# Altium integrated library FPGA Generic.IntLib: 1651 symbols (part 5 of 20)
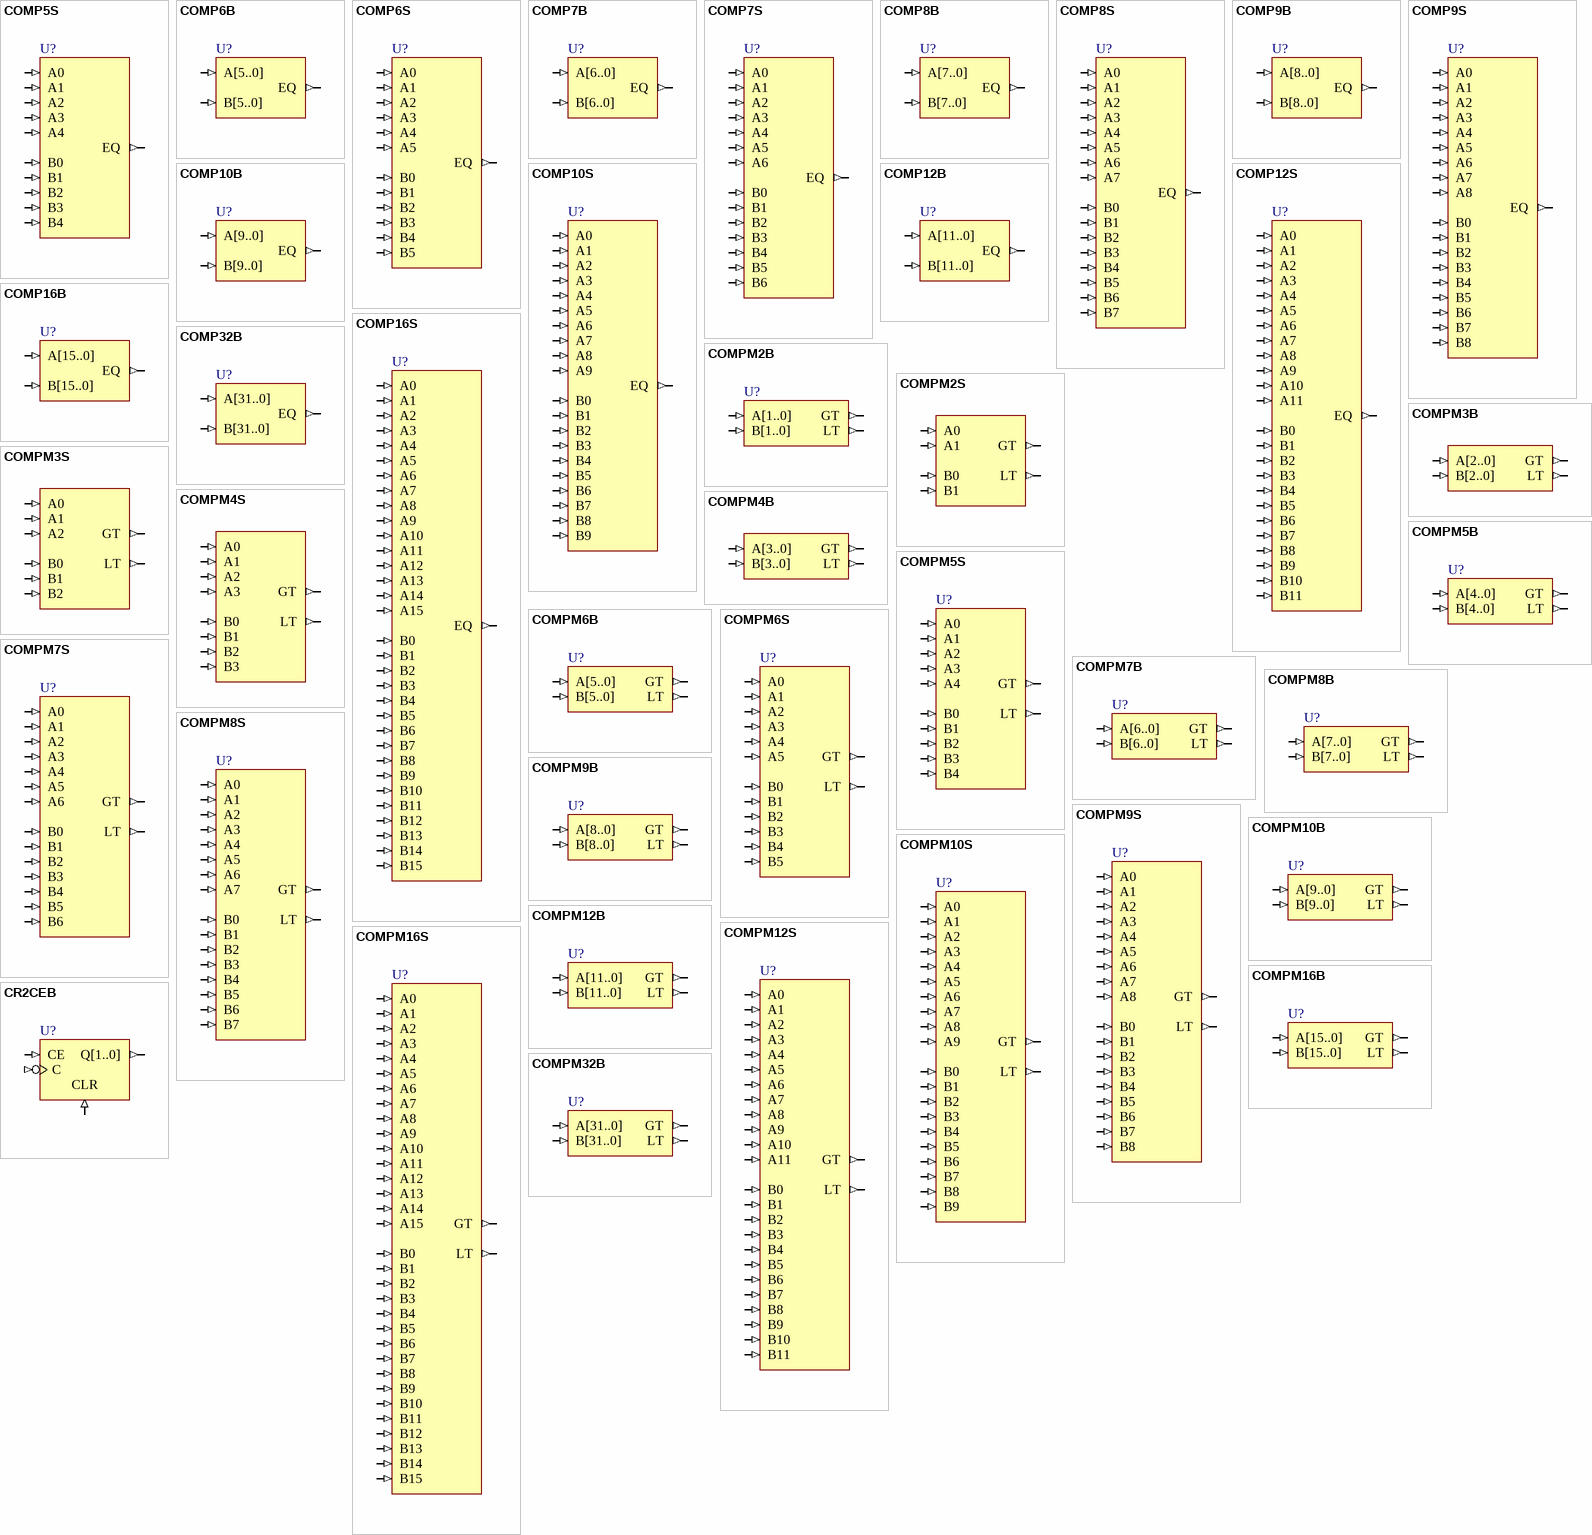
[diagram p47: symbols COMP5S to CR2CEB]

## COMPM6B
designator U?
6-Bit Magnitude Comparator, Bus Version; SubClass: COMPM; PortSize: 6; ArchiveName: GENERIC; VHDLIB_SIM: GENERIC_LIB; Published: 29-Jan-2004; Publisher: Altium Limited; LastRevisionNo: 1.00.00; HelpURL: CR0118 FPGA Generic Library Guide.pdf#page=153; ComponentLink1URL: CR0129 FPGA Comparator Resource Usage.pdf#page=33; ComponentLink1Description: Core &Resource Usage; FunctionalClass: Comparator; PortStyle: Bus Version
pins: A[5..0] (in), B[5..0] (in), GT (out), LT (out)

## COMPM6S
designator U?
6-Bit Magnitude Comparator, Single Pin Version; SubClass: COMPM; PortSize: 6; ArchiveName: GENERIC; VHDLIB_SIM: GENERIC_LIB; Published: 29-Jan-2004; Publisher: Altium Limited; LastRevisionNo: 1.00.00; HelpURL: CR0118 FPGA Generic Library Guide.pdf#page=153; ComponentLink1URL: CR0129 FPGA Comparator Resource Usage.pdf#page=34; ComponentLink1Description: Core &Resource Usage; FunctionalClass: Comparator; PortStyle: Single Pin Version
pins: A0 (in), A1 (in), A2 (in), A3 (in), A4 (in), A5 (in), B0 (in), B1 (in), B2 (in), B3 (in), B4 (in), B5 (in), GT (out), LT (out)

## COMPM7B
designator U?
7-Bit Magnitude Comparator, Bus Version; SubClass: COMPM; PortSize: 7; ArchiveName: GENERIC; VHDLIB_SIM: GENERIC_LIB; Published: 29-Jan-2004; Publisher: Altium Limited; LastRevisionNo: 1.00.00; HelpURL: CR0118 FPGA Generic Library Guide.pdf#page=153; ComponentLink1URL: CR0129 FPGA Comparator Resource Usage.pdf#page=35; ComponentLink1Description: Core &Resource Usage; FunctionalClass: Comparator; PortStyle: Bus Version
pins: A[6..0] (in), B[6..0] (in), GT (out), LT (out)

## COMPM7S
designator U?
7-Bit Magnitude Comparator, Single Pin Version; SubClass: COMPM; PortSize: 7; ArchiveName: GENERIC; VHDLIB_SIM: GENERIC_LIB; Published: 29-Jan-2004; Publisher: Altium Limited; LastRevisionNo: 1.00.00; HelpURL: CR0118 FPGA Generic Library Guide.pdf#page=153; ComponentLink1URL: CR0129 FPGA Comparator Resource Usage.pdf#page=36; ComponentLink1Description: Core &Resource Usage; FunctionalClass: Comparator; PortStyle: Single Pin Version
pins: A0 (in), A1 (in), A2 (in), A3 (in), A4 (in), A5 (in), A6 (in), B0 (in), B1 (in), B2 (in), B3 (in), B4 (in), B5 (in), B6 (in), GT (out), LT (out)

## COMPM8B
designator U?
8-Bit Magnitude Comparator, Bus Version; XilinxEquivalent: COMPM8; SubClass: COMPM; PortSize: 8; ArchiveName: GENERIC; VHDLIB_SIM: GENERIC_LIB; Published: 29-Jan-2004; Publisher: Altium Limited; LastRevisionNo: 1.00.00; HelpURL: CR0118 FPGA Generic Library Guide.pdf#page=153; ComponentLink1URL: CR0129 FPGA Comparator Resource Usage.pdf#page=37; ComponentLink1Description: Core &Resource Usage; FunctionalClass: Comparator; PortStyle: Bus Version
pins: A[7..0] (in), B[7..0] (in), GT (out), LT (out)

## COMPM8S
designator U?
8-Bit Magnitude Comparator, Single Pin Version; SubClass: COMPM; PortSize: 8; ArchiveName: GENERIC; VHDLIB_SIM: GENERIC_LIB; Published: 29-Jan-2004; Publisher: Altium Limited; LastRevisionNo: 1.00.00; HelpURL: CR0118 FPGA Generic Library Guide.pdf#page=153; ComponentLink1URL: CR0129 FPGA Comparator Resource Usage.pdf#page=38; ComponentLink1Description: Core &Resource Usage; FunctionalClass: Comparator; PortStyle: Single Pin Version
pins: A0 (in), A1 (in), A2 (in), A3 (in), A4 (in), A5 (in), A6 (in), A7 (in), B0 (in), B1 (in), B2 (in), B3 (in), B4 (in), B5 (in), B6 (in), B7 (in), GT (out), LT (out)

## COMPM9B
designator U?
9-Bit Magnitude Comparator, Bus Version; SubClass: COMPM; PortSize: 9; ArchiveName: GENERIC; VHDLIB_SIM: GENERIC_LIB; Published: 29-Jan-2004; Publisher: Altium Limited; LastRevisionNo: 1.00.00; HelpURL: CR0118 FPGA Generic Library Guide.pdf#page=153; ComponentLink1URL: CR0129 FPGA Comparator Resource Usage.pdf#page=39; ComponentLink1Description: Core &Resource Usage; FunctionalClass: Comparator; PortStyle: Bus Version
pins: A[8..0] (in), B[8..0] (in), GT (out), LT (out)

## COMPM9S
designator U?
9-Bit Magnitude Comparator, Single Pin Version; SubClass: COMPM; PortSize: 9; ArchiveName: GENERIC; VHDLIB_SIM: GENERIC_LIB; Published: 29-Jan-2004; Publisher: Altium Limited; LastRevisionNo: 1.00.00; HelpURL: CR0118 FPGA Generic Library Guide.pdf#page=153; ComponentLink1URL: CR0129 FPGA Comparator Resource Usage.pdf#page=40; ComponentLink1Description: Core &Resource Usage; FunctionalClass: Comparator; PortStyle: Single Pin Version
pins: A0 (in), A1 (in), A2 (in), A3 (in), A4 (in), A5 (in), A6 (in), A7 (in), A8 (in), B0 (in), B1 (in), B2 (in), B3 (in), B4 (in), B5 (in), B6 (in), B7 (in), B8 (in), GT (out), LT (out)

## COMPM10B
designator U?
10-Bit Magnitude Comparator, Bus Version; SubClass: COMPM; PortSize: 10; ArchiveName: GENERIC; VHDLIB_SIM: GENERIC_LIB; Published: 29-Jan-2004; Publisher: Altium Limited; LastRevisionNo: 1.00.00; HelpURL: CR0118 FPGA Generic Library Guide.pdf#page=153; ComponentLink1URL: CR0129 FPGA Comparator Resource Usage.pdf#page=41; ComponentLink1Description: Core &Resource Usage; FunctionalClass: Comparator; PortStyle: Bus Version
pins: A[9..0] (in), B[9..0] (in), GT (out), LT (out)

## COMPM10S
designator U?
10-Bit Magnitude Comparator, Single Pin Version; SubClass: COMPM; PortSize: 10; ArchiveName: GENERIC; VHDLIB_SIM: GENERIC_LIB; Published: 29-Jan-2004; Publisher: Altium Limited; LastRevisionNo: 1.00.00; HelpURL: CR0118 FPGA Generic Library Guide.pdf#page=153; ComponentLink1URL: CR0129 FPGA Comparator Resource Usage.pdf#page=42; ComponentLink1Description: Core &Resource Usage; FunctionalClass: Comparator; PortStyle: Single Pin Version
pins: A0 (in), A1 (in), A2 (in), A3 (in), A4 (in), A5 (in), A6 (in), A7 (in), A8 (in), A9 (in), B0 (in), B1 (in), B2 (in), B3 (in), B4 (in), B5 (in), B6 (in), B7 (in), B8 (in), B9 (in), GT (out), LT (out)

## COMPM12B
designator U?
12-Bit Magnitude Comparator, Bus Version; SubClass: COMPM; PortSize: 12; ArchiveName: GENERIC; VHDLIB_SIM: GENERIC_LIB; Published: 29-Jan-2004; Publisher: Altium Limited; LastRevisionNo: 1.00.00; HelpURL: CR0118 FPGA Generic Library Guide.pdf#page=153; ComponentLink1URL: CR0129 FPGA Comparator Resource Usage.pdf#page=43; ComponentLink1Description: Core &Resource Usage; FunctionalClass: Comparator; PortStyle: Bus Version
pins: A[11..0] (in), B[11..0] (in), GT (out), LT (out)

## COMPM12S
designator U?
12-Bit Magnitude Comparator, Single Pin Version; SubClass: COMPM; PortSize: 12; ArchiveName: GENERIC; VHDLIB_SIM: GENERIC_LIB; Published: 29-Jan-2004; Publisher: Altium Limited; LastRevisionNo: 1.00.00; HelpURL: CR0118 FPGA Generic Library Guide.pdf#page=153; ComponentLink1URL: CR0129 FPGA Comparator Resource Usage.pdf#page=44; ComponentLink1Description: Core &Resource Usage; FunctionalClass: Comparator; PortStyle: Single Pin Version
pins: A0 (in), A1 (in), A2 (in), A3 (in), A4 (in), A5 (in), A6 (in), A7 (in), A8 (in), A9 (in), A10 (in), A11 (in), B0 (in), B1 (in), B2 (in), B3 (in), B4 (in), B5 (in), B6 (in), B7 (in), B8 (in), B9 (in), B10 (in), B11 (in), GT (out), LT (out)

## COMPM16B
designator U?
16-Bit Magnitude Comparator, Bus Version; XilinxEquivalent: COMPM16; SubClass: COMPM; PortSize: 16; ArchiveName: GENERIC; VHDLIB_SIM: GENERIC_LIB; Published: 29-Jan-2004; Publisher: Altium Limited; LastRevisionNo: 1.00.00; HelpURL: CR0118 FPGA Generic Library Guide.pdf#page=153; ComponentLink1URL: CR0129 FPGA Comparator Resource Usage.pdf#page=45; ComponentLink1Description: Core &Resource Usage; FunctionalClass: Comparator; PortStyle: Bus Version
pins: A[15..0] (in), B[15..0] (in), GT (out), LT (out)

## COMPM16S
designator U?
16-Bit Magnitude Comparator, Single Pin Version; SubClass: COMPM; PortSize: 16; ArchiveName: GENERIC; VHDLIB_SIM: GENERIC_LIB; Published: 29-Jan-2004; Publisher: Altium Limited; LastRevisionNo: 1.00.00; HelpURL: CR0118 FPGA Generic Library Guide.pdf#page=153; ComponentLink1URL: CR0129 FPGA Comparator Resource Usage.pdf#page=46; ComponentLink1Description: Core &Resource Usage; FunctionalClass: Comparator; PortStyle: Single Pin Version
pins: A0 (in), A1 (in), A2 (in), A3 (in), A4 (in), A5 (in), A6 (in), A7 (in), A8 (in), A9 (in), A10 (in), A11 (in), A12 (in), A13 (in), A14 (in), A15 (in), B0 (in), B1 (in), B2 (in), B3 (in), B4 (in), B5 (in), B6 (in), B7 (in), B8 (in), B9 (in), B10 (in), B11 (in), B12 (in), B13 (in), B14 (in), B15 (in), GT (out), LT (out)

## COMPM32B
designator U?
32-Bit Magnitude Comparator, Bus Version; SubClass: COMPM; PortSize: 32; ArchiveName: GENERIC; VHDLIB_SIM: GENERIC_LIB; Published: 31-May-2004; Publisher: Altium Limited; LastRevisionNo: 1.00.00; HelpURL: CR0118 FPGA Generic Library Guide.pdf#page=153; ComponentLink1URL: CR0129 FPGA Comparator Resource Usage.pdf#page=47; ComponentLink1Description: Core &Resource Usage; FunctionalClass: Comparator; PortStyle: Bus Version
pins: A[31..0] (in), B[31..0] (in), GT (out), LT (out)

## CR2CEB
designator U?
2-Bit Negative-Edge Binary Ripple Counters with Clock Enable and Asynchronous Clear, Bus Version; ClockTrigger: Falling; Enable: High; PortSize: 2; ArchiveName: GENERIC; VHDLIB_SIM: GENERIC_LIB; Published: 29-Jan-2004; Publisher: Altium Limited; LastRevisionNo: 1.00.00; HelpURL: CR0118 FPGA Generic Library Guide.pdf#page=156; ComponentLink1URL: CR0130 FPGA Counter Resource Usage.pdf#page=78; ComponentLink1Description: Core &Resource Usage; FunctionalClass: Counter; SubClass: Ripple; Reset: Asynchronous; PortType: Bus Version
pins: C (in), CE (in), CLR (in), Q[1..0] (out)

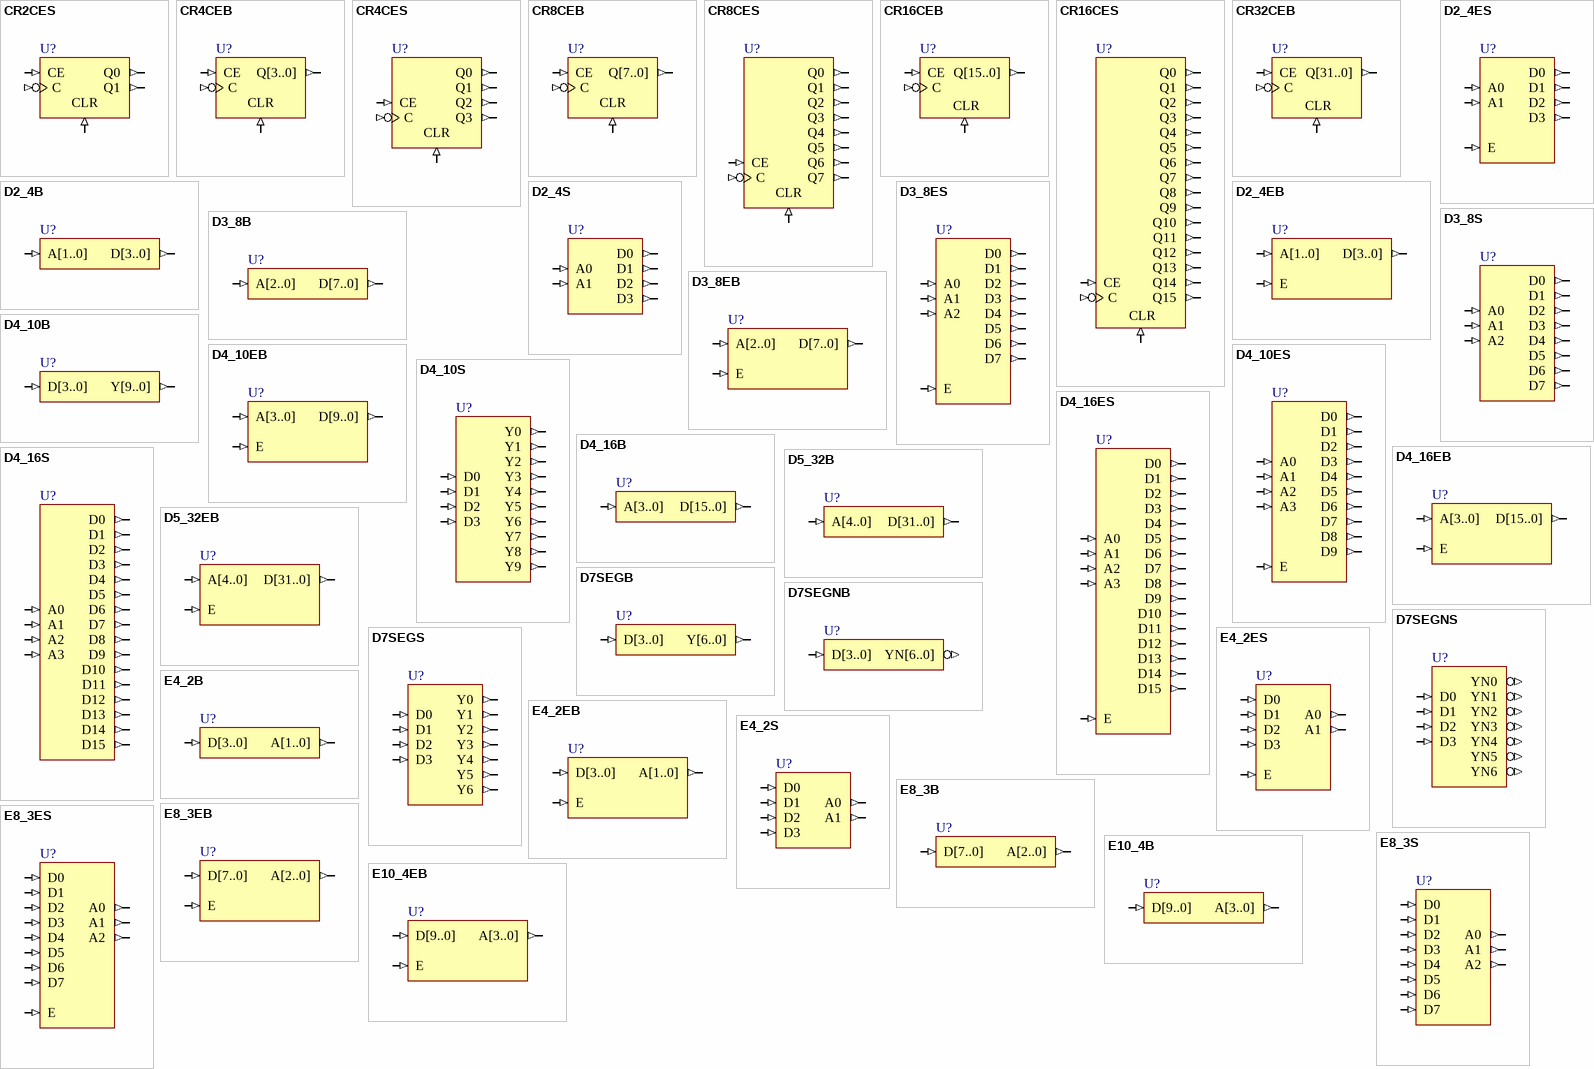
[diagram p9: symbols CR2CES to E10_4EB]

## CR2CES
designator U?
2-Bit Negative-Edge Binary Ripple Counters with Clock Enable and Asynchronous Clear, Single Pin Version; ClockTrigger: Falling; Enable: High; PortSize: 2; ArchiveName: GENERIC; VHDLIB_SIM: GENERIC_LIB; Published: 29-Jan-2004; Publisher: Altium Limited; LastRevisionNo: 1.00.00; HelpURL: CR0118 FPGA Generic Library Guide.pdf#page=156; ComponentLink1URL: CR0130 FPGA Counter Resource Usage.pdf#page=79; ComponentLink1Description: Core &Resource Usage; FunctionalClass: Counter; SubClass: Ripple; Reset: Asynchronous; PortType: Single Pin Version
pins: C (in), CE (in), CLR (in), Q0 (out), Q1 (out)

## CR4CEB
designator U?
4-Bit Negative-Edge Binary Ripple Counters with Clock Enable and Asynchronous Clear, Bus Version; ClockTrigger: Falling; Enable: High; PortSize: 4; ArchiveName: GENERIC; VHDLIB_SIM: GENERIC_LIB; Published: 29-Jan-2004; Publisher: Altium Limited; LastRevisionNo: 1.00.00; HelpURL: CR0118 FPGA Generic Library Guide.pdf#page=156; ComponentLink1URL: CR0130 FPGA Counter Resource Usage.pdf#page=80; ComponentLink1Description: Core &Resource Usage; FunctionalClass: Counter; SubClass: Ripple; Reset: Asynchronous; PortType: Bus Version
pins: C (in), CE (in), CLR (in), Q[3..0] (out)

## CR4CES
designator U?
4-Bit Negative-Edge Binary Ripple Counters with Clock Enable and Asynchronous Clear, Single Pin Version; ClockTrigger: Falling; Enable: High; PortSize: 4; ArchiveName: GENERIC; VHDLIB_SIM: GENERIC_LIB; Published: 29-Jan-2004; Publisher: Altium Limited; LastRevisionNo: 1.00.00; HelpURL: CR0118 FPGA Generic Library Guide.pdf#page=156; ComponentLink1URL: CR0130 FPGA Counter Resource Usage.pdf#page=81; ComponentLink1Description: Core &Resource Usage; FunctionalClass: Counter; SubClass: Ripple; Reset: Asynchronous; PortType: Single Pin Version
pins: C (in), CE (in), CLR (in), Q0 (out), Q1 (out), Q2 (out), Q3 (out)

## CR8CEB
designator U?
8-Bit Negative-Edge Binary Ripple Counters with Clock Enable and Asynchronous Clear, Bus Version; XilinxEquivalent: CR8CE; ClockTrigger: Falling; Enable: High; PortSize: 8; ArchiveName: GENERIC; VHDLIB_SIM: GENERIC_LIB; Published: 29-Jan-2004; Publisher: Altium Limited; LastRevisionNo: 1.00.00; HelpURL: CR0118 FPGA Generic Library Guide.pdf#page=156; ComponentLink1URL: CR0130 FPGA Counter Resource Usage.pdf#page=82; ComponentLink1Description: Core &Resource Usage; FunctionalClass: Counter; SubClass: Ripple; Reset: Asynchronous; PortType: Bus Version
pins: C (in), CE (in), CLR (in), Q[7..0] (out)

## CR8CES
designator U?
8-Bit Negative-Edge Binary Ripple Counters with Clock Enable and Asynchronous Clear, Single Pin Version; ClockTrigger: Falling; Enable: High; PortSize: 8; ArchiveName: GENERIC; VHDLIB_SIM: GENERIC_LIB; Published: 29-Jan-2004; Publisher: Altium Limited; LastRevisionNo: 1.00.00; HelpURL: CR0118 FPGA Generic Library Guide.pdf#page=156; ComponentLink1URL: CR0130 FPGA Counter Resource Usage.pdf#page=83; ComponentLink1Description: Core &Resource Usage; FunctionalClass: Counter; SubClass: Ripple; Reset: Asynchronous; PortType: Single Pin Version
pins: C (in), CE (in), CLR (in), Q0 (out), Q1 (out), Q2 (out), Q3 (out), Q4 (out), Q5 (out), Q6 (out), Q7 (out)

## CR16CEB
designator U?
16-Bit Negative-Edge Binary Ripple Counters with Clock Enable and Asynchronous Clear, Bus Version; XilinxEquivalent: CR16CE; ClockTrigger: Falling; Enable: High; PortSize: 16; ArchiveName: GENERIC; VHDLIB_SIM: GENERIC_LIB; Published: 29-Jan-2004; Publisher: Altium Limited; LastRevisionNo: 1.00.00; HelpURL: CR0118 FPGA Generic Library Guide.pdf#page=156; ComponentLink1URL: CR0130 FPGA Counter Resource Usage.pdf#page=84; ComponentLink1Description: Core &Resource Usage; FunctionalClass: Counter; SubClass: Ripple; Reset: Asynchronous; PortType: Bus Version
pins: C (in), CE (in), CLR (in), Q[15..0] (out)

## CR16CES
designator U?
16-Bit Negative-Edge Binary Ripple Counters with Clock Enable and Asynchronous Clear, Single Pin Version; ClockTrigger: Falling; Enable: High; PortSize: 16; ArchiveName: GENERIC; VHDLIB_SIM: GENERIC_LIB; Published: 29-Jan-2004; Publisher: Altium Limited; LastRevisionNo: 1.00.00; HelpURL: CR0118 FPGA Generic Library Guide.pdf#page=156; ComponentLink1URL: CR0130 FPGA Counter Resource Usage.pdf#page=85; ComponentLink1Description: Core &Resource Usage; FunctionalClass: Counter; SubClass: Ripple; Reset: Asynchronous; PortType: Single Pin Version
pins: C (in), CE (in), CLR (in), Q0 (out), Q1 (out), Q2 (out), Q3 (out), Q4 (out), Q5 (out), Q6 (out), Q7 (out), Q8 (out), Q9 (out), Q10 (out), Q11 (out), Q12 (out), Q13 (out), Q14 (out), Q15 (out)

## CR32CEB
designator U?
32-Bit Negative-Edge Binary Ripple Counters with Clock Enable and Asynchronous Clear, Bus Version; ClockTrigger: Falling; Enable: High; PortSize: 32; ArchiveName: GENERIC; VHDLIB_SIM: GENERIC_LIB; Published: 31-May-2004; Publisher: Altium Limited; LastRevisionNo: 1.00.00; HelpURL: CR0118 FPGA Generic Library Guide.pdf#page=156; ComponentLink1URL: CR0130 FPGA Counter Resource Usage.pdf#page=86; ComponentLink1Description: Core &Resource Usage; FunctionalClass: Counter; SubClass: Ripple; Reset: Asynchronous; PortType: Bus Version
pins: C (in), CE (in), CLR (in), Q[31..0] (out)

## D2_4B
designator U?
Binary 2- to 4-Bit Decoder, Bus Version; SubClass: n_m; PortSize: 4; ArchiveName: GENERIC; VHDLIB_SIM: GENERIC_LIB; Published: 29-Jan-2004; Publisher: Altium Limited; LastRevisionNo: 1.00.00; HelpURL: CR0118 FPGA Generic Library Guide.pdf#page=158; ComponentLink1URL: CR0131 FPGA Decoder Resource Usage.pdf#page=2; ComponentLink1Description: Core &Resource Usage; FunctionalClass: Decoder; PortStyle: Bus Version
pins: A[1..0] (in), D[3..0] (out)

## D2_4EB
designator U?
Binary 2- to 4-Bit Decoder with Enable, Bus Version; SubClass: n_m; Enable: High; PortSize: 4; ArchiveName: GENERIC; VHDLIB_SIM: GENERIC_LIB; Published: 29-Jan-2004; Publisher: Altium Limited; LastRevisionNo: 1.00.00; HelpURL: CR0118 FPGA Generic Library Guide.pdf#page=159; ComponentLink1URL: CR0131 FPGA Decoder Resource Usage.pdf#page=3; ComponentLink1Description: Core &Resource Usage; FunctionalClass: Decoder; PortStyle: Bus Version
pins: A[1..0] (in), D[3..0] (out), E (in)

## D2_4ES
designator U?
Binary 2- to 4-Bit Decoder with Enable, Single Pin Version; XilinxEquivalent: D2_4E; SubClass: n_m; Enable: High; PortSize: 4; ArchiveName: GENERIC; VHDLIB_SIM: GENERIC_LIB; Published: 29-Jan-2004; Publisher: Altium Limited; LastRevisionNo: 1.00.00; HelpURL: CR0118 FPGA Generic Library Guide.pdf#page=159; ComponentLink1URL: CR0131 FPGA Decoder Resource Usage.pdf#page=4; ComponentLink1Description: Core &Resource Usage; FunctionalClass: Decoder; PortStyle: Single Pin Version
pins: A0 (in), A1 (in), D0 (out), D1 (out), D2 (out), D3 (out), E (in)

## D2_4S
designator U?
Binary 2- to 4-Bit Decoder, Single Pin Version; SubClass: n_m; PortSize: 4; ArchiveName: GENERIC; VHDLIB_SIM: GENERIC_LIB; Published: 29-Jan-2004; Publisher: Altium Limited; LastRevisionNo: 1.00.00; HelpURL: CR0118 FPGA Generic Library Guide.pdf#page=158; ComponentLink1URL: CR0131 FPGA Decoder Resource Usage.pdf#page=5; ComponentLink1Description: Core &Resource Usage; FunctionalClass: Decoder; PortStyle: Single Pin Version
pins: A0 (in), A1 (in), D0 (out), D1 (out), D2 (out), D3 (out)

## D3_8B
designator U?
Binary 3- to 8-Bit Decoder, Bus Version; SubClass: n_m; PortSize: 8; ArchiveName: GENERIC; VHDLIB_SIM: GENERIC_LIB; Published: 29-Jan-2004; Publisher: Altium Limited; LastRevisionNo: 1.00.00; HelpURL: CR0118 FPGA Generic Library Guide.pdf#page=158; ComponentLink1URL: CR0131 FPGA Decoder Resource Usage.pdf#page=6; ComponentLink1Description: Core &Resource Usage; FunctionalClass: Decoder; PortStyle: Bus Version
pins: A[2..0] (in), D[7..0] (out)

## D3_8EB
designator U?
Binary 3- to 8-Bit Decoder with Enable, Bus Version; SubClass: n_m; Enable: High; PortSize: 8; ArchiveName: GENERIC; VHDLIB_SIM: GENERIC_LIB; Published: 29-Jan-2004; Publisher: Altium Limited; LastRevisionNo: 1.00.00; HelpURL: CR0118 FPGA Generic Library Guide.pdf#page=159; ComponentLink1URL: CR0131 FPGA Decoder Resource Usage.pdf#page=7; ComponentLink1Description: Core &Resource Usage; FunctionalClass: Decoder; PortStyle: Bus Version
pins: A[2..0] (in), D[7..0] (out), E (in)

## D3_8ES
designator U?
Binary 3- to 8-Bit Decoder with Enable, Single Pin Version; XilinxEquivalent: D3_8E; SubClass: n_m; Enable: High; PortSize: 8; ArchiveName: GENERIC; VHDLIB_SIM: GENERIC_LIB; Published: 29-Jan-2004; Publisher: Altium Limited; LastRevisionNo: 1.00.00; HelpURL: CR0118 FPGA Generic Library Guide.pdf#page=159; ComponentLink1URL: CR0131 FPGA Decoder Resource Usage.pdf#page=8; ComponentLink1Description: Core &Resource Usage; FunctionalClass: Decoder; PortStyle: Single Pin Version
pins: A0 (in), A1 (in), A2 (in), D0 (out), D1 (out), D2 (out), D3 (out), D4 (out), D5 (out), D6 (out), D7 (out), E (in)

## D3_8S
designator U?
Binary 3- to 8-Bit Decoder, Single Pin Version; SubClass: n_m; PortSize: 8; ArchiveName: GENERIC; VHDLIB_SIM: GENERIC_LIB; Published: 29-Jan-2004; Publisher: Altium Limited; LastRevisionNo: 1.00.00; HelpURL: CR0118 FPGA Generic Library Guide.pdf#page=158; ComponentLink1URL: CR0131 FPGA Decoder Resource Usage.pdf#page=9; ComponentLink1Description: Core &Resource Usage; FunctionalClass: Decoder; PortStyle: Single Pin Version
pins: A0 (in), A1 (in), A2 (in), D0 (out), D1 (out), D2 (out), D3 (out), D4 (out), D5 (out), D6 (out), D7 (out)

## D4_10B
designator U?
Binary-Coded-Decimal (BCD) Decoder, Bus Version; SubClass: 4_10; PortSize: 10; ArchiveName: GENERIC; VHDLIB_SIM: GENERIC_LIB; Published: 29-Jan-2004; Publisher: Altium Limited; LastRevisionNo: 1.00.00; HelpURL: CR0118 FPGA Generic Library Guide.pdf#page=160; ComponentLink1URL: CR0131 FPGA Decoder Resource Usage.pdf#page=10; ComponentLink1Description: Core &Resource Usage; FunctionalClass: Decoder; PortStyle: Bus Version
pins: D[3..0] (in), Y[9..0] (out)

## D4_10EB
designator U?
Binary-Coded-Decimal (BCD) Decoder with Enable, Bus Version; SubClass: 4_10; Enable: High; PortSize: 10; ArchiveName: GENERIC; VHDLIB_SIM: GENERIC_LIB; Published: 31-May-2004; Publisher: Altium Limited; LastRevisionNo: 1.00.00; HelpURL: CR0118 FPGA Generic Library Guide.pdf#page=161; ComponentLink1URL: CR0131 FPGA Decoder Resource Usage.pdf#page=11; ComponentLink1Description: Core &Resource Usage; FunctionalClass: Decoder; PortStyle: Bus Version
pins: A[3..0] (in), D[9..0] (out), E (in)

## D4_10ES
designator U?
Binary-Coded-Decimal (BCD) Decoder with Enable, Single Pin Version; SubClass: 4_10; Enable: High; PortSize: 10; ArchiveName: GENERIC; VHDLIB_SIM: GENERIC_LIB; Published: 31-May-2004; Publisher: Altium Limited; LastRevisionNo: 1.00.00; HelpURL: CR0118 FPGA Generic Library Guide.pdf#page=161; ComponentLink1URL: CR0131 FPGA Decoder Resource Usage.pdf#page=12; ComponentLink1Description: Core &Resource Usage; FunctionalClass: Decoder; PortStyle: Single Pin Version
pins: A0 (in), A1 (in), A2 (in), A3 (in), D0 (out), D1 (out), D2 (out), D3 (out), D4 (out), D5 (out), D6 (out), D7 (out), D8 (out), D9 (out), E (in)

## D4_10S
designator U?
Binary-Coded-Decimal (BCD) Decoder, Single Pin Version; SubClass: 4_10; PortSize: 10; ArchiveName: GENERIC; VHDLIB_SIM: GENERIC_LIB; Published: 29-Jan-2004; Publisher: Altium Limited; LastRevisionNo: 1.00.00; HelpURL: CR0118 FPGA Generic Library Guide.pdf#page=160; ComponentLink1URL: CR0131 FPGA Decoder Resource Usage.pdf#page=13; ComponentLink1Description: Core &Resource Usage; FunctionalClass: Decoder; PortStyle: Single Pin Version
pins: D0 (in), D1 (in), D2 (in), D3 (in), Y0 (out), Y1 (out), Y2 (out), Y3 (out), Y4 (out), Y5 (out), Y6 (out), Y7 (out), Y8 (out), Y9 (out)

## D4_16B
designator U?
Binary 4- to 16-Bit Decoder, Bus Version; SubClass: n_m; PortSize: 16; ArchiveName: GENERIC; VHDLIB_SIM: GENERIC_LIB; Published: 29-Jan-2004; Publisher: Altium Limited; LastRevisionNo: 1.00.00; HelpURL: CR0118 FPGA Generic Library Guide.pdf#page=158; ComponentLink1URL: CR0131 FPGA Decoder Resource Usage.pdf#page=14; ComponentLink1Description: Core &Resource Usage; FunctionalClass: Decoder; PortStyle: Bus Version
pins: A[3..0] (in), D[15..0] (out)

## D4_16EB
designator U?
Binary 4- to 16-Bit Decoder with Enable, Bus Version; SubClass: n_m; Enable: High; PortSize: 16; ArchiveName: GENERIC; VHDLIB_SIM: GENERIC_LIB; Published: 29-Jan-2004; Publisher: Altium Limited; LastRevisionNo: 1.00.00; HelpURL: CR0118 FPGA Generic Library Guide.pdf#page=159; ComponentLink1URL: CR0131 FPGA Decoder Resource Usage.pdf#page=15; ComponentLink1Description: Core &Resource Usage; FunctionalClass: Decoder; PortStyle: Bus Version
pins: A[3..0] (in), D[15..0] (out), E (in)

## D4_16ES
designator U?
Binary 4- to 16-Bit Decoder with Enable, Single Pin Version; XilinxEquivalent: D4_16E; SubClass: n_m; Enable: High; PortSize: 16; ArchiveName: GENERIC; VHDLIB_SIM: GENERIC_LIB; Published: 29-Jan-2004; Publisher: Altium Limited; LastRevisionNo: 1.00.00; HelpURL: CR0118 FPGA Generic Library Guide.pdf#page=159; ComponentLink1URL: CR0131 FPGA Decoder Resource Usage.pdf#page=16; ComponentLink1Description: Core &Resource Usage; FunctionalClass: Decoder; PortStyle: Single Pin Version
pins: A0 (in), A1 (in), A2 (in), A3 (in), D0 (out), D1 (out), D2 (out), D3 (out), D4 (out), D5 (out), D6 (out), D7 (out), D8 (out), D9 (out), D10 (out), D11 (out), D12 (out), D13 (out), D14 (out), D15 (out), E (in)

## D4_16S
designator U?
Binary 4- to 16-Bit Decoder, Single Pin Version; SubClass: n_m; PortSize: 16; ArchiveName: GENERIC; VHDLIB_SIM: GENERIC_LIB; Published: 29-Jan-2004; Publisher: Altium Limited; LastRevisionNo: 1.00.00; HelpURL: CR0118 FPGA Generic Library Guide.pdf#page=158; ComponentLink1URL: CR0131 FPGA Decoder Resource Usage.pdf#page=17; ComponentLink1Description: Core &Resource Usage; FunctionalClass: Decoder; PortStyle: Single Pin Version
pins: A0 (in), A1 (in), A2 (in), A3 (in), D0 (out), D1 (out), D2 (out), D3 (out), D4 (out), D5 (out), D6 (out), D7 (out), D8 (out), D9 (out), D10 (out), D11 (out), D12 (out), D13 (out), D14 (out), D15 (out)

## D5_32B
designator U?
Binary 5- to 32-Bit Decoder, Bus Version; SubClass: n_m; PortSize: 32; ArchiveName: GENERIC; VHDLIB_SIM: GENERIC_LIB; Published: 31-May-2004; Publisher: Altium Limited; LastRevisionNo: 1.00.00; HelpURL: CR0118 FPGA Generic Library Guide.pdf#page=158; ComponentLink1URL: CR0131 FPGA Decoder Resource Usage.pdf#page=18; ComponentLink1Description: Core &Resource Usage; FunctionalClass: Decoder; PortStyle: Bus Version
pins: A[4..0] (in), D[31..0] (out)

## D5_32EB
designator U?
Binary 5- to 32-Bit Decoder with Enable, Bus Version; SubClass: n_m; Enable: High; PortSize: 32; ArchiveName: GENERIC; VHDLIB_SIM: GENERIC_LIB; Published: 31-May-2004; Publisher: Altium Limited; LastRevisionNo: 1.00.00; HelpURL: CR0118 FPGA Generic Library Guide.pdf#page=159; ComponentLink1URL: CR0131 FPGA Decoder Resource Usage.pdf#page=19; ComponentLink1Description: Core &Resource Usage; FunctionalClass: Decoder; PortStyle: Bus Version
pins: A[4..0] (in), D[31..0] (out), E (in)

## D7SEGB
designator U?
7-Segment-Display Decoder for Common-Cathode LED (Active High Output), Bus Version; SubClass: 7SEG; PortSize: 7; ArchiveName: GENERIC; VHDLIB_SIM: GENERIC_LIB; Published: 29-Jan-2004; Publisher: Altium Limited; LastRevisionNo: 1.00.00; HelpURL: CR0118 FPGA Generic Library Guide.pdf#page=162; ComponentLink1URL: CR0131 FPGA Decoder Resource Usage.pdf#page=20; ComponentLink1Description: Core &Resource Usage; FunctionalClass: Decoder; PortStyle: Bus Version
pins: D[3..0] (in), Y[6..0] (out)

## D7SEGNB
designator U?
7-Segment-Display Decoder for Common-Anode LED (Active Low Output), Bus Version; SubClass: 7SEGN; PortSize: 7; ArchiveName: GENERIC; VHDLIB_SIM: GENERIC_LIB; Published: 29-Jan-2004; Publisher: Altium Limited; LastRevisionNo: 1.00.00; HelpURL: CR0118 FPGA Generic Library Guide.pdf#page=163; ComponentLink1URL: CR0131 FPGA Decoder Resource Usage.pdf#page=21; ComponentLink1Description: Core &Resource Usage; FunctionalClass: Decoder; PortStyle: Bus Version
pins: D[3..0] (in), YN[6..0] (out)

## D7SEGNS
designator U?
7-Segment-Display Decoder for Common-Anode LED (Active Low Output), Single Pin Version; SubClass: 7SEGN; PortSize: 7; ArchiveName: GENERIC; VHDLIB_SIM: GENERIC_LIB; Published: 29-Jan-2004; Publisher: Altium Limited; LastRevisionNo: 1.00.00; HelpURL: CR0118 FPGA Generic Library Guide.pdf#page=163; ComponentLink1URL: CR0131 FPGA Decoder Resource Usage.pdf#page=22; ComponentLink1Description: Core &Resource Usage; FunctionalClass: Decoder; PortStyle: Single Pin Version
pins: D0 (in), D1 (in), D2 (in), D3 (in), YN0 (out), YN1 (out), YN2 (out), YN3 (out), YN4 (out), YN5 (out), YN6 (out)

## D7SEGS
designator U?
7-Segment-Display Decoder for Common-Cathode LED (Active High Output), Single Pin Version; SubClass: 7SEG; PortSize: 7; ArchiveName: GENERIC; VHDLIB_SIM: GENERIC_LIB; Published: 29-Jan-2004; Publisher: Altium Limited; LastRevisionNo: 1.00.00; HelpURL: CR0118 FPGA Generic Library Guide.pdf#page=162; ComponentLink1URL: CR0131 FPGA Decoder Resource Usage.pdf#page=23; ComponentLink1Description: Core &Resource Usage; FunctionalClass: Decoder; PortStyle: Single Pin Version
pins: D0 (in), D1 (in), D2 (in), D3 (in), Y0 (out), Y1 (out), Y2 (out), Y3 (out), Y4 (out), Y5 (out), Y6 (out)

## E4_2B
designator U?
4- to 2-Bit Priority Encoder, Bus Version; SubClass: n_m; PortSize: 2; ArchiveName: GENERIC; VHDLIB_SIM: GENERIC_LIB; Published: 29-Jan-2004; Publisher: Altium Limited; LastRevisionNo: 1.00.00; HelpURL: CR0118 FPGA Generic Library Guide.pdf#page=164; ComponentLink1URL: CR0132 FPGA Encoder Resource Usage.pdf#page=2; ComponentLink1Description: Core &Resource Usage; FunctionalClass: Encoder; PortStyle: Bus Version
pins: A[1..0] (out), D[3..0] (in)

## E4_2EB
designator U?
4- to 2-Bit Priority Encoder with Enable, Bus Version; SubClass: n_m; Enable: High; PortSize: 2; ArchiveName: GENERIC; VHDLIB_SIM: GENERIC_LIB; Published: 29-Jan-2004; Publisher: Altium Limited; LastRevisionNo: 1.00.00; HelpURL: CR0118 FPGA Generic Library Guide.pdf#page=166; ComponentLink1URL: CR0132 FPGA Encoder Resource Usage.pdf#page=3; ComponentLink1Description: Core &Resource Usage; FunctionalClass: Encoder; PortStyle: Bus Version
pins: A[1..0] (out), D[3..0] (in), E (in)

## E4_2ES
designator U?
4- to 2-Bit Priority Encoder with Enable, Single Pin Version; SubClass: n_m; Enable: High; PortSize: 2; ArchiveName: GENERIC; VHDLIB_SIM: GENERIC_LIB; Published: 29-Jan-2004; Publisher: Altium Limited; LastRevisionNo: 1.00.00; HelpURL: CR0118 FPGA Generic Library Guide.pdf#page=166; ComponentLink1URL: CR0132 FPGA Encoder Resource Usage.pdf#page=4; ComponentLink1Description: Core &Resource Usage; FunctionalClass: Encoder; PortStyle: Single Pin Version
pins: A0 (out), A1 (out), D0 (in), D1 (in), D2 (in), D3 (in), E (in)

## E4_2S
designator U?
4- to 2-Bit Priority Encoder, Single Pin Version; SubClass: n_m; PortSize: 2; ArchiveName: GENERIC; VHDLIB_SIM: GENERIC_LIB; Published: 29-Jan-2004; Publisher: Altium Limited; LastRevisionNo: 1.00.00; HelpURL: CR0118 FPGA Generic Library Guide.pdf#page=164; ComponentLink1URL: CR0132 FPGA Encoder Resource Usage.pdf#page=5; ComponentLink1Description: Core &Resource Usage; FunctionalClass: Encoder; PortStyle: Single Pin Version
pins: A0 (out), A1 (out), D0 (in), D1 (in), D2 (in), D3 (in)

## E8_3B
designator U?
8- to 3-Bit Priority Encoder, Bus Version; SubClass: n_m; PortSize: 3; ArchiveName: GENERIC; VHDLIB_SIM: GENERIC_LIB; Published: 29-Jan-2004; Publisher: Altium Limited; LastRevisionNo: 1.00.00; HelpURL: CR0118 FPGA Generic Library Guide.pdf#page=164; ComponentLink1URL: CR0132 FPGA Encoder Resource Usage.pdf#page=6; ComponentLink1Description: Core &Resource Usage; FunctionalClass: Encoder; PortStyle: Bus Version
pins: A[2..0] (out), D[7..0] (in)

## E8_3EB
designator U?
8- to 3-Bit Priority Encoder with Enable, Bus Version; SubClass: n_m; Enable: High; PortSize: 3; ArchiveName: GENERIC; VHDLIB_SIM: GENERIC_LIB; Published: 29-Jan-2004; Publisher: Altium Limited; LastRevisionNo: 1.00.00; HelpURL: CR0118 FPGA Generic Library Guide.pdf#page=166; ComponentLink1URL: CR0132 FPGA Encoder Resource Usage.pdf#page=7; ComponentLink1Description: Core &Resource Usage; FunctionalClass: Encoder; PortStyle: Bus Version
pins: A[2..0] (out), D[7..0] (in), E (in)

## E8_3ES
designator U?
8- to 3-Bit Priority Encoder with Enable, Single Pin Version; SubClass: n_m; Enable: High; PortSize: 3; ArchiveName: GENERIC; VHDLIB_SIM: GENERIC_LIB; Published: 29-Jan-2004; Publisher: Altium Limited; LastRevisionNo: 1.00.00; HelpURL: CR0118 FPGA Generic Library Guide.pdf#page=166; ComponentLink1URL: CR0132 FPGA Encoder Resource Usage.pdf#page=8; ComponentLink1Description: Core &Resource Usage; FunctionalClass: Encoder; PortStyle: Single Pin Version
pins: A0 (out), A1 (out), A2 (out), D0 (in), D1 (in), D2 (in), D3 (in), D4 (in), D5 (in), D6 (in), D7 (in), E (in)

## E8_3S
designator U?
8- to 3-Bit Priority Encoder, Single Pin Version; SubClass: n_m; PortSize: 3; ArchiveName: GENERIC; VHDLIB_SIM: GENERIC_LIB; Published: 29-Jan-2004; Publisher: Altium Limited; LastRevisionNo: 1.00.00; HelpURL: CR0118 FPGA Generic Library Guide.pdf#page=164; ComponentLink1URL: CR0132 FPGA Encoder Resource Usage.pdf#page=9; ComponentLink1Description: Core &Resource Usage; FunctionalClass: Encoder; PortStyle: Single Pin Version
pins: A0 (out), A1 (out), A2 (out), D0 (in), D1 (in), D2 (in), D3 (in), D4 (in), D5 (in), D6 (in), D7 (in)

## E10_4B
designator U?
Binary-Coded-Decimal (BCD) Encoder, Bus Version; SubClass: 10_4; PortSize: 4; ArchiveName: GENERIC; VHDLIB_SIM: GENERIC_LIB; Published: 31-May-2004; Publisher: Altium Limited; LastRevisionNo: 1.00.00; HelpURL: CR0118 FPGA Generic Library Guide.pdf#page=168; ComponentLink1URL: CR0132 FPGA Encoder Resource Usage.pdf#page=10; ComponentLink1Description: Core &Resource Usage; FunctionalClass: Encoder; PortStyle: Bus Version
pins: A[3..0] (out), D[9..0] (in)

## E10_4EB
designator U?
Binary-Coded-Decimal (BCD) Encoder with Enable, Bus Version; SubClass: 10_4; Enable: High; PortSize: 4; ArchiveName: GENERIC; VHDLIB_SIM: GENERIC_LIB; Published: 31-May-2004; Publisher: Altium Limited; LastRevisionNo: 1.00.00; HelpURL: CR0118 FPGA Generic Library Guide.pdf#page=169; ComponentLink1URL: CR0132 FPGA Encoder Resource Usage.pdf#page=11; ComponentLink1Description: Core &Resource Usage; FunctionalClass: Encoder; PortStyle: Bus Version
pins: A[3..0] (out), D[9..0] (in), E (in)

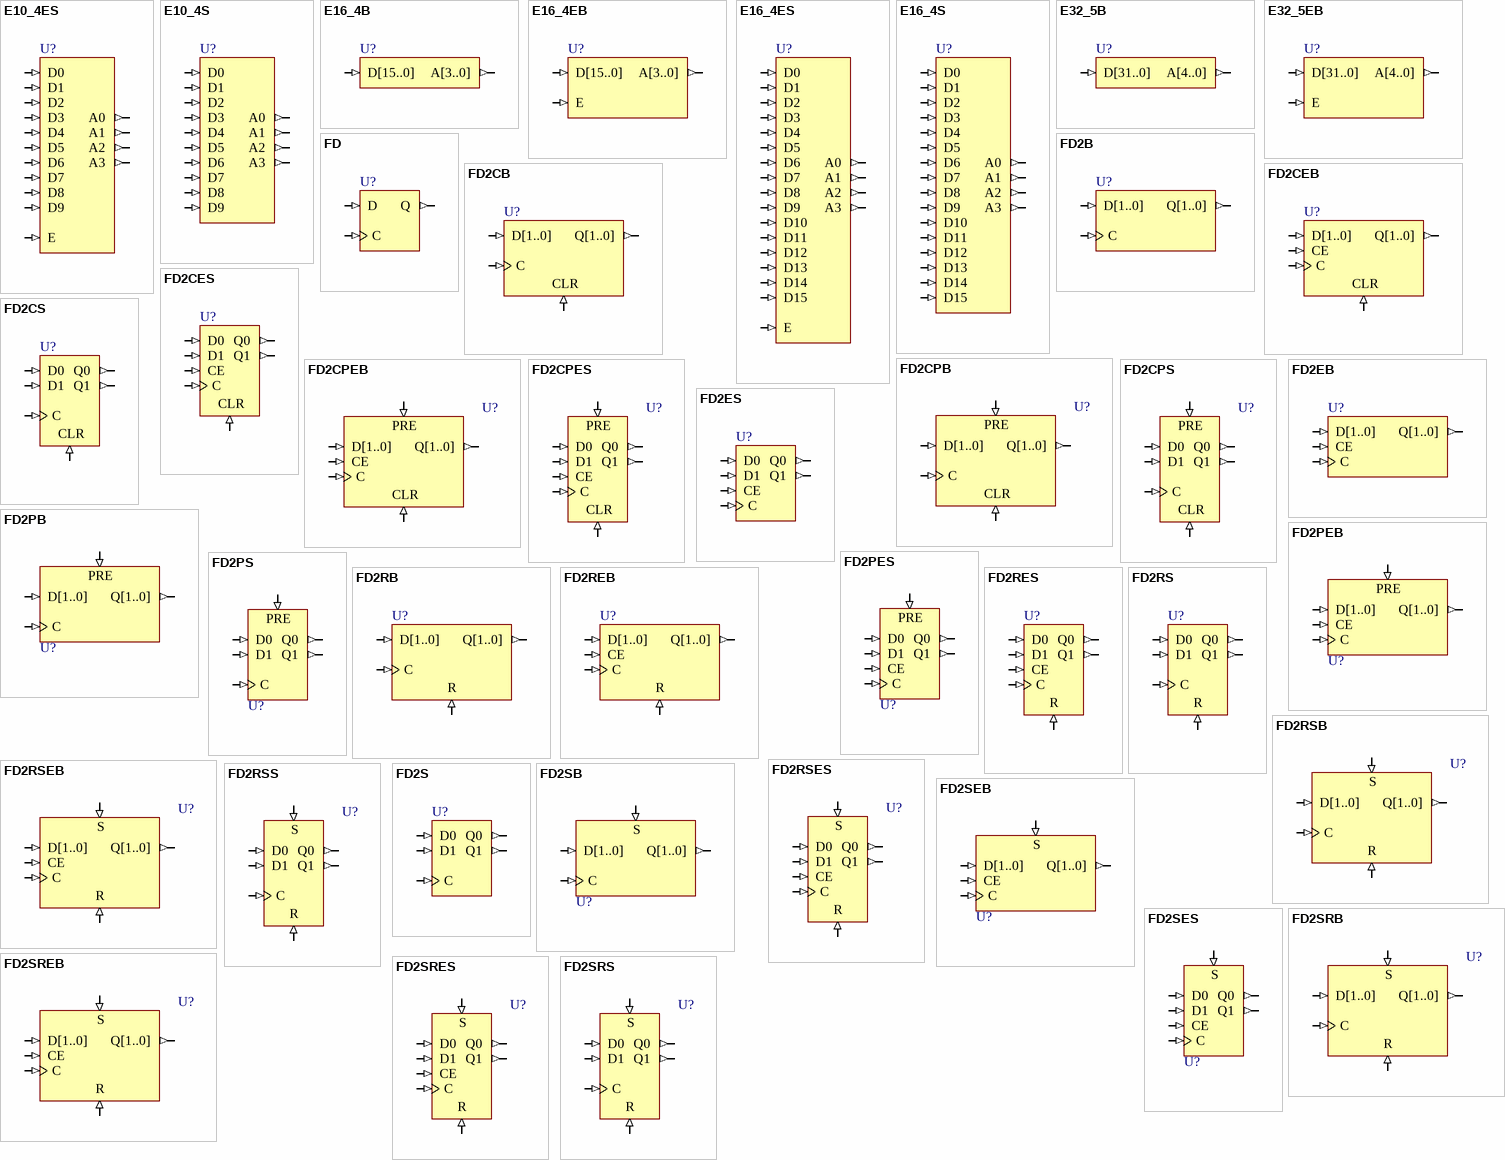
[diagram p10: symbols E10_4ES to FD2SRS]

## E10_4ES
designator U?
Binary-Coded-Decimal (BCD) Encoder with Enable, Single Pin Version; SubClass: 10_4; Enable: High; PortSize: 4; ArchiveName: GENERIC; VHDLIB_SIM: GENERIC_LIB; Published: 31-May-2004; Publisher: Altium Limited; LastRevisionNo: 1.00.00; HelpURL: CR0118 FPGA Generic Library Guide.pdf#page=169; ComponentLink1URL: CR0132 FPGA Encoder Resource Usage.pdf#page=12; ComponentLink1Description: Core &Resource Usage; FunctionalClass: Encoder; PortStyle: Single Pin Version
pins: A0 (out), A1 (out), A2 (out), A3 (out), D0 (in), D1 (in), D2 (in), D3 (in), D4 (in), D5 (in), D6 (in), D7 (in), D8 (in), D9 (in), E (in)

## E10_4S
designator U?
Binary-Coded-Decimal (BCD) Encoder, Single Pin Version; SubClass: 10_4; PortSize: 4; ArchiveName: GENERIC; VHDLIB_SIM: GENERIC_LIB; Published: 31-May-2004; Publisher: Altium Limited; LastRevisionNo: 1.00.00; HelpURL: CR0118 FPGA Generic Library Guide.pdf#page=168; ComponentLink1URL: CR0132 FPGA Encoder Resource Usage.pdf#page=13; ComponentLink1Description: Core &Resource Usage; FunctionalClass: Encoder; PortStyle: Single Pin Version
pins: A0 (out), A1 (out), A2 (out), A3 (out), D0 (in), D1 (in), D2 (in), D3 (in), D4 (in), D5 (in), D6 (in), D7 (in), D8 (in), D9 (in)

## E16_4B
designator U?
16- to 4-Bit Priority Encoder, Bus Version; SubClass: n_m; PortSize: 4; ArchiveName: GENERIC; VHDLIB_SIM: GENERIC_LIB; Published: 29-Jan-2004; Publisher: Altium Limited; LastRevisionNo: 1.00.00; HelpURL: CR0118 FPGA Generic Library Guide.pdf#page=164; ComponentLink1URL: CR0132 FPGA Encoder Resource Usage.pdf#page=14; ComponentLink1Description: Core &Resource Usage; FunctionalClass: Encoder; PortStyle: Bus Version
pins: A[3..0] (out), D[15..0] (in)

## E16_4EB
designator U?
16- to 4-Bit Priority Encoder with Enable, Bus Version; SubClass: n_m; Enable: High; PortSize: 4; ArchiveName: GENERIC; VHDLIB_SIM: GENERIC_LIB; Published: 29-Jan-2004; Publisher: Altium Limited; LastRevisionNo: 1.00.00; HelpURL: CR0118 FPGA Generic Library Guide.pdf#page=166; ComponentLink1URL: CR0132 FPGA Encoder Resource Usage.pdf#page=15; ComponentLink1Description: Core &Resource Usage; FunctionalClass: Encoder; PortStyle: Bus Version
pins: A[3..0] (out), D[15..0] (in), E (in)

## E16_4ES
designator U?
16- to 4-Bit Priority Encoder with Enable, Single Pin Version; SubClass: n_m; Enable: High; PortSize: 4; ArchiveName: GENERIC; VHDLIB_SIM: GENERIC_LIB; Published: 29-Jan-2004; Publisher: Altium Limited; LastRevisionNo: 1.00.00; HelpURL: CR0118 FPGA Generic Library Guide.pdf#page=166; ComponentLink1URL: CR0132 FPGA Encoder Resource Usage.pdf#page=16; ComponentLink1Description: Core &Resource Usage; FunctionalClass: Encoder; PortStyle: Single Pin Version
pins: A0 (out), A1 (out), A2 (out), A3 (out), D0 (in), D1 (in), D2 (in), D3 (in), D4 (in), D5 (in), D6 (in), D7 (in), D8 (in), D9 (in), D10 (in), D11 (in), D12 (in), D13 (in), D14 (in), D15 (in), E (in)

## E16_4S
designator U?
16- to 4-Bit Priority Encoder, Single Pin Version; SubClass: n_m; PortSize: 4; ArchiveName: GENERIC; VHDLIB_SIM: GENERIC_LIB; Published: 29-Jan-2004; Publisher: Altium Limited; LastRevisionNo: 1.00.00; HelpURL: CR0118 FPGA Generic Library Guide.pdf#page=164; ComponentLink1URL: CR0132 FPGA Encoder Resource Usage.pdf#page=17; ComponentLink1Description: Core &Resource Usage; FunctionalClass: Encoder; PortStyle: Single Pin Version
pins: A0 (out), A1 (out), A2 (out), A3 (out), D0 (in), D1 (in), D2 (in), D3 (in), D4 (in), D5 (in), D6 (in), D7 (in), D8 (in), D9 (in), D10 (in), D11 (in), D12 (in), D13 (in), D14 (in), D15 (in)

## E32_5B
designator U?
32- to 5-Bit Priority Encoder, Bus Version; SubClass: n_m; PortSize: 5; ArchiveName: GENERIC; VHDLIB_SIM: GENERIC_LIB; Published: 31-May-2004; Publisher: Altium Limited; LastRevisionNo: 1.00.00; HelpURL: CR0118 FPGA Generic Library Guide.pdf#page=164; ComponentLink1URL: CR0132 FPGA Encoder Resource Usage.pdf#page=18; ComponentLink1Description: Core &Resource Usage; FunctionalClass: Encoder; PortStyle: Bus Version
pins: A[4..0] (out), D[31..0] (in)

## E32_5EB
designator U?
32- to 5-Bit Priority Encoder with Enable, Bus Version; SubClass: n_m; Enable: High; PortSize: 5; ArchiveName: GENERIC; VHDLIB_SIM: GENERIC_LIB; Published: 31-May-2004; Publisher: Altium Limited; LastRevisionNo: 1.00.00; HelpURL: CR0118 FPGA Generic Library Guide.pdf#page=166; ComponentLink1URL: CR0132 FPGA Encoder Resource Usage.pdf#page=19; ComponentLink1Description: Core &Resource Usage; FunctionalClass: Encoder; PortStyle: Bus Version
pins: A[4..0] (out), D[31..0] (in), E (in)

## FD
designator U?
D-Type Flip-Flop; XilinxEquivalent: FD; ClockTrigger: Rising; ArchiveName: GENERIC; VHDLIB_SIM: GENERIC_LIB; Published: 29-Jan-2004; Publisher: Altium Limited; LastRevisionNo: 1.00.00; HelpURL: CR0118 FPGA Generic Library Guide.pdf#page=170; ComponentLink1URL: CR0133 FPGA Flip Flop Resource Usage.pdf#page=4; ComponentLink1Description: Core &Resource Usage; FunctionalClass: Flip-Flop; SubClass: FD
pins: C (in), D (in), Q (out)

## FD2B
designator U?
2-Bit D-Type Flip-Flop, Bus Version; SubClass: FD; ClockTrigger: Rising; PortSize: 2; ArchiveName: GENERIC; VHDLIB_SIM: GENERIC_LIB; Published: 29-Jan-2004; Publisher: Altium Limited; LastRevisionNo: 1.00.00; HelpURL: CR0118 FPGA Generic Library Guide.pdf#page=170; ComponentLink1URL: CR0133 FPGA Flip Flop Resource Usage.pdf#page=5; ComponentLink1Description: Core &Resource Usage; FunctionalClass: Flip-Flop; PortStyle: Bus Version
pins: C (in), D[1..0] (in), Q[1..0] (out)

## FD2CB
designator U?
2-Bit D-Type Flip-Flop with Asynchronous Clear, Bus Version; SubClass: FD; ClockTrigger: Rising; PortSize: 2; ArchiveName: GENERIC; VHDLIB_SIM: GENERIC_LIB; Published: 29-Jan-2004; Publisher: Altium Limited; LastRevisionNo: 1.00.00; HelpURL: CR0118 FPGA Generic Library Guide.pdf#page=172; ComponentLink1URL: CR0133 FPGA Flip Flop Resource Usage.pdf#page=6; ComponentLink1Description: Core &Resource Usage; FunctionalClass: Flip-Flop; Reset: Asynchronous; PortStyle: Bus Version
pins: C (in), CLR (in), D[1..0] (in), Q[1..0] (out)

## FD2CEB
designator U?
2-Bit D-Type Flip-Flop with Clock Enable and Asynchronous Clear, Bus Version; SubClass: FD; ClockTrigger: Rising; Enable: High; PortSize: 2; ArchiveName: GENERIC; VHDLIB_SIM: GENERIC_LIB; Published: 29-Jan-2004; Publisher: Altium Limited; LastRevisionNo: 1.00.00; HelpURL: CR0118 FPGA Generic Library Guide.pdf#page=174; ComponentLink1URL: CR0133 FPGA Flip Flop Resource Usage.pdf#page=7; ComponentLink1Description: Core &Resource Usage; FunctionalClass: Flip-Flop; Reset: Asynchronous; PortStyle: Bus Version
pins: C (in), CE (in), CLR (in), D[1..0] (in), Q[1..0] (out)

## FD2CES
designator U?
2-Bit D-Type Flip-Flop with Clock Enable and Asynchronous Clear, Single Pin Version; SubClass: FD; ClockTrigger: Rising; Enable: High; PortSize: 2; ArchiveName: GENERIC; VHDLIB_SIM: GENERIC_LIB; Published: 29-Jan-2004; Publisher: Altium Limited; LastRevisionNo: 1.00.00; HelpURL: CR0118 FPGA Generic Library Guide.pdf#page=174; ComponentLink1URL: CR0133 FPGA Flip Flop Resource Usage.pdf#page=8; ComponentLink1Description: Core &Resource Usage; FunctionalClass: Flip-Flop; Reset: Asynchronous; PortStyle: Single Pin Version
pins: C (in), CE (in), CLR (in), D0 (in), D1 (in), Q0 (out), Q1 (out)

## FD2CPB
designator U?
2-Bit D-Type Flip-Flop with Asynchronous Preset and Clear, Bus Version; SubClass: FD; ClockTrigger: Rising; PortSize: 2; ArchiveName: GENERIC; VHDLIB_SIM: GENERIC_LIB; Published: 29-Jan-2004; Publisher: Altium Limited; LastRevisionNo: 1.00.00; HelpURL: CR0118 FPGA Generic Library Guide.pdf#page=179; ComponentLink1URL: CR0133 FPGA Flip Flop Resource Usage.pdf#page=9; ComponentLink1Description: Core &Resource Usage; FunctionalClass: Flip-Flop; Reset: Asynchronous; Set: Asynchronous; PortStyle: Bus Version
pins: C (in), CLR (in), D[1..0] (in), PRE (in), Q[1..0] (out)

## FD2CPEB
designator U?
2-Bit D-Type Flip-Flop with Clock Enable and Asynchronous Preset and Clear, Bus Version; SubClass: FD; ClockTrigger: Rising; Enable: High; PortSize: 2; ArchiveName: GENERIC; VHDLIB_SIM: GENERIC_LIB; Published: 29-Jan-2004; Publisher: Altium Limited; LastRevisionNo: 1.00.00; HelpURL: CR0118 FPGA Generic Library Guide.pdf#page=182; ComponentLink1URL: CR0133 FPGA Flip Flop Resource Usage.pdf#page=10; ComponentLink1Description: Core &Resource Usage; FunctionalClass: Flip-Flop; Reset: Asynchronous; Set: Asynchronous; PortStyle: Bus Version
pins: C (in), CE (in), CLR (in), D[1..0] (in), PRE (in), Q[1..0] (out)

## FD2CPES
designator U?
2-Bit D-Type Flip-Flop with Clock Enable and Asynchronous Preset and Clear, Single Pin Version; SubClass: FD; ClockTrigger: Rising; Enable: High; PortSize: 2; ArchiveName: GENERIC; VHDLIB_SIM: GENERIC_LIB; Published: 29-Jan-2004; Publisher: Altium Limited; LastRevisionNo: 1.00.00; HelpURL: CR0118 FPGA Generic Library Guide.pdf#page=182; ComponentLink1URL: CR0133 FPGA Flip Flop Resource Usage.pdf#page=11; ComponentLink1Description: Core &Resource Usage; FunctionalClass: Flip-Flop; Reset: Asynchronous; Set: Asynchronous; PortStyle: Single Pin Version
pins: C (in), CE (in), CLR (in), D0 (in), D1 (in), PRE (in), Q0 (out), Q1 (out)

## FD2CPS
designator U?
2-Bit D-Type Flip-Flop with Asynchronous Preset and Clear, Single Pin Version; SubClass: FD; ClockTrigger: Rising; PortSize: 2; ArchiveName: GENERIC; VHDLIB_SIM: GENERIC_LIB; Published: 29-Jan-2004; Publisher: Altium Limited; LastRevisionNo: 1.00.00; HelpURL: CR0118 FPGA Generic Library Guide.pdf#page=179; ComponentLink1URL: CR0133 FPGA Flip Flop Resource Usage.pdf#page=12; ComponentLink1Description: Core &Resource Usage; FunctionalClass: Flip-Flop; Reset: Asynchronous; Set: Asynchronous; PortStyle: Single Pin Version
pins: C (in), CLR (in), D0 (in), D1 (in), PRE (in), Q0 (out), Q1 (out)

## FD2CS
designator U?
2-Bit D-Type Flip-Flop with Asynchronous Clear, Single Pin Version; SubClass: FD; ClockTrigger: Rising; PortSize: 2; ArchiveName: GENERIC; VHDLIB_SIM: GENERIC_LIB; Published: 29-Jan-2004; Publisher: Altium Limited; LastRevisionNo: 1.00.00; HelpURL: CR0118 FPGA Generic Library Guide.pdf#page=172; ComponentLink1URL: CR0133 FPGA Flip Flop Resource Usage.pdf#page=13; ComponentLink1Description: Core &Resource Usage; FunctionalClass: Flip-Flop; Reset: Asynchronous; PortStyle: Single Pin Version
pins: C (in), CLR (in), D0 (in), D1 (in), Q0 (out), Q1 (out)

## FD2EB
designator U?
2-Bit D Flip-Flop with Clock Enable, Bus Version; SubClass: FD; ClockTrigger: Rising; Enable: High; PortSize: 2; ArchiveName: GENERIC; VHDLIB_SIM: GENERIC_LIB; Published: 29-Jan-2004; Publisher: Altium Limited; LastRevisionNo: 1.00.00; HelpURL: CR0118 FPGA Generic Library Guide.pdf#page=187; ComponentLink1URL: CR0133 FPGA Flip Flop Resource Usage.pdf#page=14; ComponentLink1Description: Core &Resource Usage; FunctionalClass: Flip-Flop; PortStyle: Bus Version
pins: C (in), CE (in), D[1..0] (in), Q[1..0] (out)

## FD2ES
designator U?
2-Bit D Flip-Flop with Clock Enable, Single Pin Version; SubClass: FD; ClockTrigger: Rising; Enable: High; PortSize: 2; ArchiveName: GENERIC; VHDLIB_SIM: GENERIC_LIB; Published: 29-Jan-2004; Publisher: Altium Limited; LastRevisionNo: 1.00.00; HelpURL: CR0118 FPGA Generic Library Guide.pdf#page=187; ComponentLink1URL: CR0133 FPGA Flip Flop Resource Usage.pdf#page=15; ComponentLink1Description: Core &Resource Usage; FunctionalClass: Flip-Flop; PortStyle: Single Pin Version
pins: C (in), CE (in), D0 (in), D1 (in), Q0 (out), Q1 (out)

## FD2PB
designator U?
2-Bit D-Type Flip-Flop with Asynchronous Preset, Bus Version; SubClass: FD; ClockTrigger: Rising; PortSize: 2; ArchiveName: GENERIC; VHDLIB_SIM: GENERIC_LIB; Published: 29-Jan-2004; Publisher: Altium Limited; LastRevisionNo: 1.00.00; HelpURL: CR0118 FPGA Generic Library Guide.pdf#page=191; ComponentLink1URL: CR0133 FPGA Flip Flop Resource Usage.pdf#page=16; ComponentLink1Description: Core &Resource Usage; FunctionalClass: Flip-Flop; Set: Asynchronous; PortStyle: Bus Version
pins: C (in), D[1..0] (in), PRE (in), Q[1..0] (out)

## FD2PEB
designator U?
2-Bit D-Type Flip-Flop with Clock Enable and Asynchronous Preset, Bus Version; SubClass: FD; ClockTrigger: Rising; Enable: High; PortSize: 2; ArchiveName: GENERIC; VHDLIB_SIM: GENERIC_LIB; Published: 29-Jan-2004; Publisher: Altium Limited; LastRevisionNo: 1.00.00; HelpURL: CR0118 FPGA Generic Library Guide.pdf#page=193; ComponentLink1URL: CR0133 FPGA Flip Flop Resource Usage.pdf#page=17; ComponentLink1Description: Core &Resource Usage; FunctionalClass: Flip-Flop; Set: Asynchronous; PortStyle: Bus Version
pins: C (in), CE (in), D[1..0] (in), PRE (in), Q[1..0] (out)

## FD2PES
designator U?
2-Bit D-Type Flip-Flop with Clock Enable and Asynchronous Preset, Single Pin Version; SubClass: FD; ClockTrigger: Rising; Enable: High; PortSize: 2; ArchiveName: GENERIC; VHDLIB_SIM: GENERIC_LIB; Published: 29-Jan-2004; Publisher: Altium Limited; LastRevisionNo: 1.00.00; HelpURL: CR0118 FPGA Generic Library Guide.pdf#page=193; ComponentLink1URL: CR0133 FPGA Flip Flop Resource Usage.pdf#page=18; ComponentLink1Description: Core &Resource Usage; FunctionalClass: Flip-Flop; Set: Asynchronous; PortStyle: Single Pin Version
pins: C (in), CE (in), D0 (in), D1 (in), PRE (in), Q0 (out), Q1 (out)

## FD2PS
designator U?
2-Bit D-Type Flip-Flop with Asynchronous Preset, Single Pin Version; SubClass: FD; ClockTrigger: Rising; PortSize: 2; ArchiveName: GENERIC; VHDLIB_SIM: GENERIC_LIB; Published: 29-Jan-2004; Publisher: Altium Limited; LastRevisionNo: 1.00.00; HelpURL: CR0118 FPGA Generic Library Guide.pdf#page=191; ComponentLink1URL: CR0133 FPGA Flip Flop Resource Usage.pdf#page=19; ComponentLink1Description: Core &Resource Usage; FunctionalClass: Flip-Flop; Set: Asynchronous; PortStyle: Single Pin Version
pins: C (in), D0 (in), D1 (in), PRE (in), Q0 (out), Q1 (out)

## FD2RB
designator U?
2-Bit D-Type Flip-Flop with Synchronous Reset, Bus Version; SubClass: FD; ClockTrigger: Rising; PortSize: 2; ArchiveName: GENERIC; VHDLIB_SIM: GENERIC_LIB; Published: 29-Jan-2004; Publisher: Altium Limited; LastRevisionNo: 1.00.00; HelpURL: CR0118 FPGA Generic Library Guide.pdf#page=198; ComponentLink1URL: CR0133 FPGA Flip Flop Resource Usage.pdf#page=20; ComponentLink1Description: Core &Resource Usage; FunctionalClass: Flip-Flop; Reset: Synchronous; PortStyle: Bus Version
pins: C (in), D[1..0] (in), Q[1..0] (out), R (in)

## FD2REB
designator U?
2-Bit D-Type Flip-Flop with Clock Enable and Synchronous Reset, Bus Version; SubClass: FD; ClockTrigger: Rising; Enable: High; PortSize: 2; ArchiveName: GENERIC; VHDLIB_SIM: GENERIC_LIB; Published: 29-Jan-2004; Publisher: Altium Limited; LastRevisionNo: 1.00.00; HelpURL: CR0118 FPGA Generic Library Guide.pdf#page=200; ComponentLink1URL: CR0133 FPGA Flip Flop Resource Usage.pdf#page=21; ComponentLink1Description: Core &Resource Usage; FunctionalClass: Flip-Flop; Reset: Synchronous; PortStyle: Bus Version
pins: C (in), CE (in), D[1..0] (in), Q[1..0] (out), R (in)

## FD2RES
designator U?
2-Bit D-Type Flip-Flop with Clock Enable and Synchronous Reset, Single Pin Version; SubClass: FD; ClockTrigger: Rising; Enable: High; PortSize: 2; ArchiveName: GENERIC; VHDLIB_SIM: GENERIC_LIB; Published: 29-Jan-2004; Publisher: Altium Limited; LastRevisionNo: 1.00.00; HelpURL: CR0118 FPGA Generic Library Guide.pdf#page=200; ComponentLink1URL: CR0133 FPGA Flip Flop Resource Usage.pdf#page=22; ComponentLink1Description: Core &Resource Usage; FunctionalClass: Flip-Flop; Reset: Synchronous; PortStyle: Single Pin Version
pins: C (in), CE (in), D0 (in), D1 (in), Q0 (out), Q1 (out), R (in)

## FD2RS
designator U?
2-Bit D-Type Flip-Flop with Synchronous Reset, Single Pin Version; SubClass: FD; ClockTrigger: Rising; PortSize: 2; ArchiveName: GENERIC; VHDLIB_SIM: GENERIC_LIB; Published: 29-Jan-2004; Publisher: Altium Limited; LastRevisionNo: 1.00.00; HelpURL: CR0118 FPGA Generic Library Guide.pdf#page=198; ComponentLink1URL: CR0133 FPGA Flip Flop Resource Usage.pdf#page=23; ComponentLink1Description: Core &Resource Usage; FunctionalClass: Flip-Flop; Reset: Synchronous; PortStyle: Single Pin Version
pins: C (in), D0 (in), D1 (in), Q0 (out), Q1 (out), R (in)

## FD2RSB
designator U?
2-Bit D-Type Flip-Flop with Synchronous Reset and Set, Bus Version; SubClass: FD; ClockTrigger: Rising; PortSize: 2; ArchiveName: GENERIC; VHDLIB_SIM: GENERIC_LIB; Published: 29-Jan-2004; Publisher: Altium Limited; LastRevisionNo: 1.00.00; HelpURL: CR0118 FPGA Generic Library Guide.pdf#page=205; ComponentLink1URL: CR0133 FPGA Flip Flop Resource Usage.pdf#page=24; ComponentLink1Description: Core &Resource Usage; FunctionalClass: Flip-Flop; Reset: Synchronous; Set: Synchronous; PortStyle: Bus Version
pins: C (in), D[1..0] (in), Q[1..0] (out), R (in), S (in)

## FD2RSEB
designator U?
2-Bit D-Type Flip-Flop with Synchronous Reset and Set and Clock Enable, Bus Version; SubClass: FD; ClockTrigger: Rising; Enable: High; PortSize: 2; ArchiveName: GENERIC; VHDLIB_SIM: GENERIC_LIB; Published: 29-Jan-2004; Publisher: Altium Limited; LastRevisionNo: 1.00.00; HelpURL: CR0118 FPGA Generic Library Guide.pdf#page=208; ComponentLink1URL: CR0133 FPGA Flip Flop Resource Usage.pdf#page=25; ComponentLink1Description: Core &Resource Usage; FunctionalClass: Flip-Flop; Reset: Synchronous; Set: Synchronous; PortStyle: Bus Version
pins: C (in), CE (in), D[1..0] (in), Q[1..0] (out), R (in), S (in)

## FD2RSES
designator U?
2-Bit D-Type Flip-Flop with Synchronous Reset and Set and Clock Enable, Single Pin Version; SubClass: FD; ClockTrigger: Rising; Enable: High; PortSize: 2; ArchiveName: GENERIC; VHDLIB_SIM: GENERIC_LIB; Published: 29-Jan-2004; Publisher: Altium Limited; LastRevisionNo: 1.00.00; HelpURL: CR0118 FPGA Generic Library Guide.pdf#page=208; ComponentLink1URL: CR0133 FPGA Flip Flop Resource Usage.pdf#page=26; ComponentLink1Description: Core &Resource Usage; FunctionalClass: Flip-Flop; Reset: Synchronous; Set: Synchronous; PortStyle: Single Pin Version
pins: C (in), CE (in), D0 (in), D1 (in), Q0 (out), Q1 (out), R (in), S (in)